# Altium footprint library Ferrite_Beads.PCBLIB: 2 footprints
Each footprint in its own frame and in the unit in brackets; x right, y up, seen from the top. Pads: shape width x height; smd on the part's side, far side on the other; paste and mask are expansions set on the pad; w line width, h text height; cw(c..) or ccw(c..) is an arc to the next point about the centre after c.
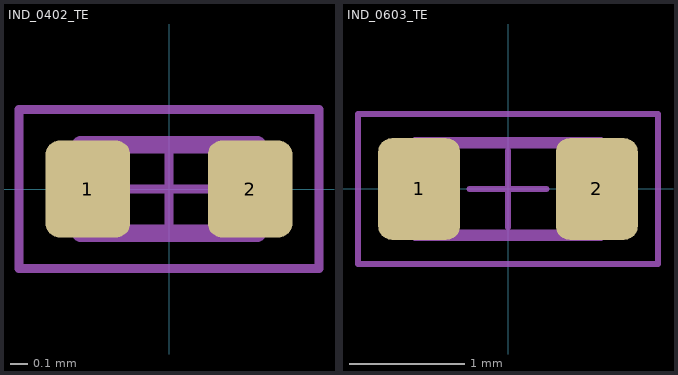
[diagram p0: the footprints below, top view; thin cyan lines are the x and y axes]

## IND_0402_TE [mm]
height 0.55
pads (2):
  rrect33% 0.48x0.55 smd: 1(-0.46,0) 2(0.46,0)
Top Assembly:
  lines w0.1: -0.3,-0.25 -0.3,0.25 ; 0.3,-0.25 0.3,0.25 ; -0.5,-0.25 -0.5,0.25 0.5,0.25 0.5,-0.25 -0.5,-0.25
Top Courtyard:
  lines w0.05: -0.85,-0.45 -0.85,0.45 0.85,0.45 0.85,-0.45 -0.85,-0.45
Top Designator:
  text ".Designator" at 0.9,-0.2 h0.7
Top Component Center:
  lines w0.05: -0.225,0 0.225,0 ; 0,-0.225 0,0.225
3D body "User Library-Chip Inductor.step": height 0.5, standoff 0, extent -0.5,-0.3 0.5,0.3

## IND_0603_TE [mm]
height 0.95
pads (2):
  rrect33% 0.71x0.88 smd: 1(-0.77,0) 2(0.77,0)
Top Assembly:
  lines w0.1: -0.5,-0.4 -0.5,0.4 ; 0.5,-0.4 0.5,0.4 ; -0.8,-0.4 -0.8,0.4 0.8,0.4 0.8,-0.4 -0.8,-0.4
Top Courtyard:
  lines w0.05: -1.3,-0.65 -1.3,0.65 1.3,0.65 1.3,-0.65 -1.3,-0.65
Top Designator:
  text ".Designator" at 1.3,-0.3 h0.7
Top Component Center:
  lines w0.05: -0.333,0 0.333,0 ; 0,-0.333 0,0.333
3D body "ASMPH-0603.STEP": height 0.95, standoff 0.15, extent -0.8,-0.4 0.8,0.4
3D body "ASMPH-0603.STEP": height 0.8, standoff 0, extent -0.8,-0.4 0.8,0.4